# EAGLE library part EFD12/6/3.5 (library transformers)
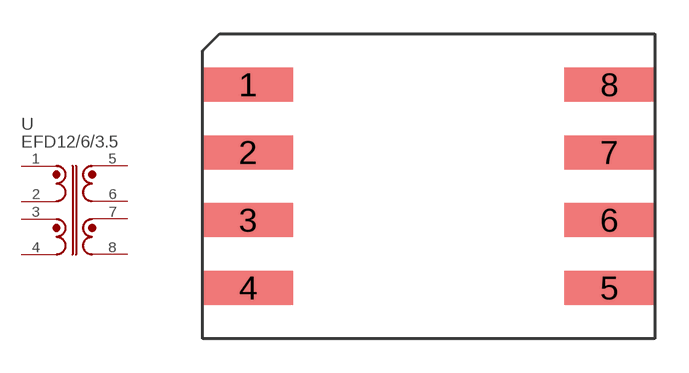
[diagram p0: symbol with the pads of EFD12/6/3.5; footprint EFD12/6/3.5]

Designator prefix -

## EFD12/6/3.5  [EFD12/6/3.5]
1  1
2  2
3  3
4  4
5  5
6  6
7  7
8  8

## Footprint EFD12/6/3.5 (pad centres in mm)
smd 4 x 1.5: 1 -8,4.5; 2 -8,1.5; 3 -8,-1.5; 4 -8,-4.5; 5 8,-4.5; 6 8,-1.5; 7 8,1.5; 8 8,4.5